# EAGLE library part AUDIO-8P-SMD (library Connector )
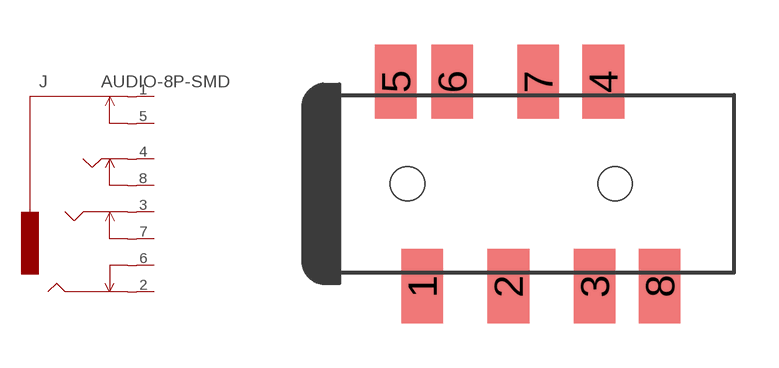
[diagram p33: symbol with the pads of 8P-3.5-SMD; footprint 8P-3.5-SMD]

Designator prefix J

## AUDIO-8P-SMD'PJ-3536-L6S'  [8P-3.5-SMD]
1  1
2  2
3  3
4  4
5  5
6  6
7  7
8  8

## Footprint 8P-3.5-SMD (pad centres in mm)
smd 1.4 x 2.5: 1 2.8,-3.45; 2 5.7,-3.45; 3 8.6,-3.45; 4 8.9,3.45; 5 1.9,3.45; 6 3.8,3.45; 7 6.7,3.45; 8 10.8,-3.45
hole 1.149 at 2.3,0
hole 1.149 at 9.3,0